# Altium footprint library MCU6050breakout.PcbLib: 1 footprints
Each footprint in its own frame and in the unit in brackets; x right, y up, seen from the top. Pads: shape width x height; smd on the part's side, far side on the other; paste and mask are expansions set on the pad; w line width, h text height; cw(c..) or ccw(c..) is an arc to the next point about the centre after c.
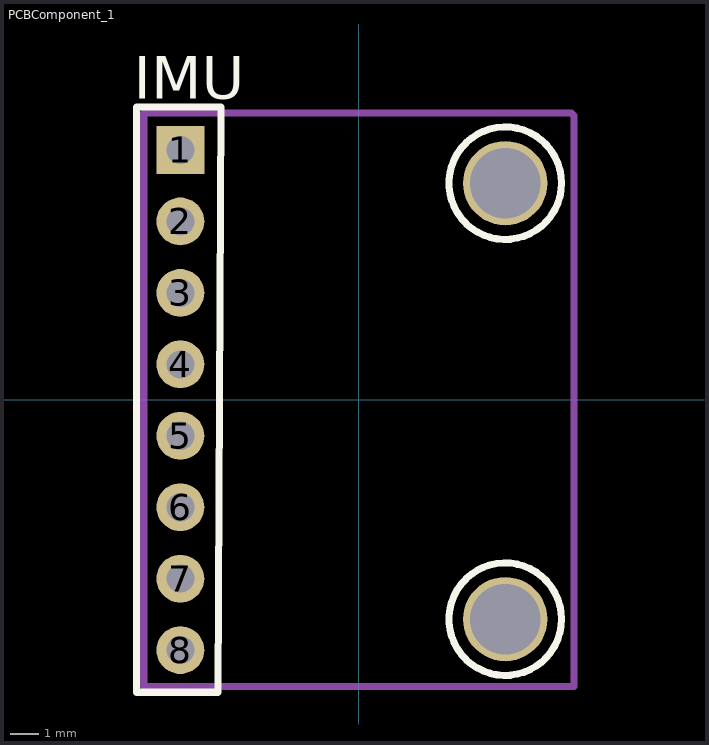
[diagram p0: the footprint, top view; thin cyan lines are the x and y axes]

## PCBComponent_1 [mm]
pads (10):
  rect 1.7x1.7 hole 1: 1(-6.347,8.876)
  round 1.7 hole 1: 2(-6.347,6.336) 3(-6.347,3.796) 4(-6.347,1.256) 5(-6.347,-1.284) 6(-6.347,-3.824) 7(-6.347,-6.364) 8(-6.347,-8.904)
  round 3 hole 2.5: ""(5.203,-7.804) ""(5.203,7.696)
Top Overlay:
  circle w0.254: c5.203,-7.804 r2
  circle w0.254: c5.203,7.696 r2
  lines w0.254: -7.9,-10.4 -7.9,10.4 -4.902,10.4 -5.005,-10.4 -7.9,-10.4
  text "IMU" at -8,10.7 h1.52
Mechanical 1:
  lines w0.254: -7.647,7.296 -7.647,10.196 ; -7.647,10.196 7.553,10.196 7.653,10.096 7.653,-10.204 -7.647,-10.204 -7.647,10.196
3D body "MPU6050 With Mounting Hardware.step": height 14.67, standoff -3.17, extent -7.647,-10.204 7.603,10.175